# Altium schematic symbol library JST-PH.SchLib: 1 symbol
Pins are listed as number, name and electrical type; pins without a type are passive.

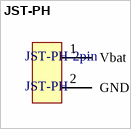
[diagram p0: symbol JST-PH]

## JST-PH
designator JST-PH-2pin
2 pin JST-PH Connenctor
pins: 1 Vbat, 2 GND